# EAGLE library part STM32F4_DISCOVERY (library provant_custom)
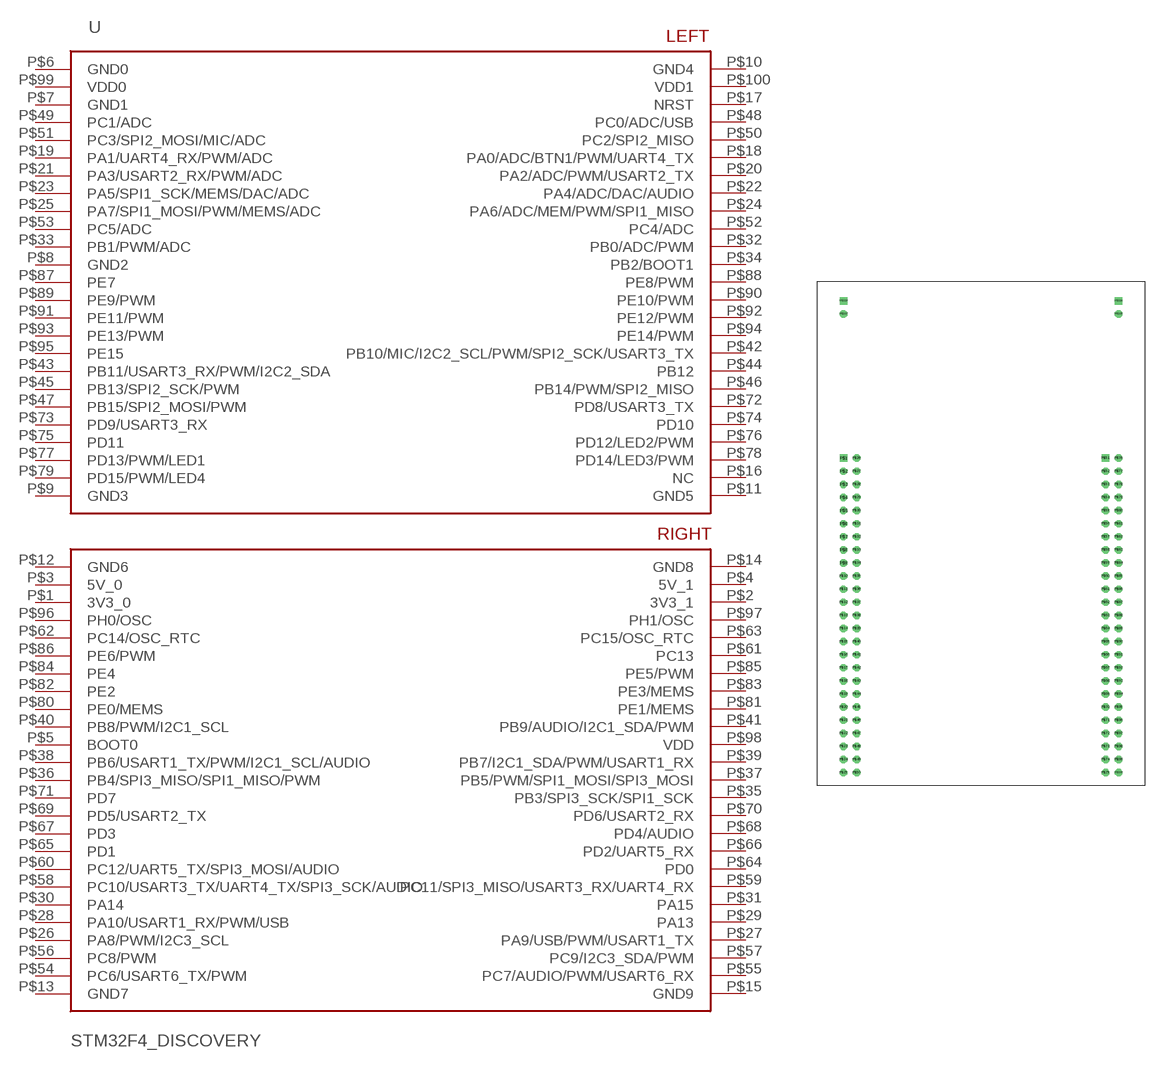
[diagram p1: symbol with the pads of STM32F4_DISCOVERY; footprint STM32F4_DISCOVERY]

Designator prefix -

## STM32F4_DISCOVERY  [STM32F4_DISCOVERY]
P$1  3V3_0
P$2  3V3_1
P$3  5V_0
P$4  5V_1
P$5  BOOT0
P$6  GND0
P$7  GND1
P$8  GND2
P$9  GND3
P$10  GND4
P$11  GND5
P$12  GND6
P$13  GND7
P$14  GND8
P$15  GND9
P$16  NC
P$17  NRST
P$18  PA0/ADC/BTN1/PWM/UART4_TX
P$19  PA1/UART4_RX/PWM/ADC
P$20  PA2/ADC/PWM/USART2_TX
P$21  PA3/USART2_RX/PWM/ADC
P$22  PA4/ADC/DAC/AUDIO
P$23  PA5/SPI1_SCK/MEMS/DAC/ADC
P$24  PA6/ADC/MEM/PWM/SPI1_MISO
P$25  PA7/SPI1_MOSI/PWM/MEMS/ADC
P$26  PA8/PWM/I2C3_SCL
P$27  PA9/USB/PWM/USART1_TX
P$28  PA10/USART1_RX/PWM/USB
P$29  PA13
P$30  PA14
P$31  PA15
P$32  PB0/ADC/PWM
P$33  PB1/PWM/ADC
P$34  PB2/BOOT1
P$35  PB3/SPI3_SCK/SPI1_SCK
P$36  PB4/SPI3_MISO/SPI1_MISO/PWM
P$37  PB5/PWM/SPI1_MOSI/SPI3_MOSI
P$38  PB6/USART1_TX/PWM/I2C1_SCL/AUDIO
P$39  PB7/I2C1_SDA/PWM/USART1_RX
P$40  PB8/PWM/I2C1_SCL
P$41  PB9/AUDIO/I2C1_SDA/PWM
P$42  PB10/MIC/I2C2_SCL/PWM/SPI2_SCK/USART3_TX
P$43  PB11/USART3_RX/PWM/I2C2_SDA
P$44  PB12
P$45  PB13/SPI2_SCK/PWM
P$46  PB14/PWM/SPI2_MISO
P$47  PB15/SPI2_MOSI/PWM
P$48  PC0/ADC/USB
P$49  PC1/ADC
P$50  PC2/SPI2_MISO
P$51  PC3/SPI2_MOSI/MIC/ADC
P$52  PC4/ADC
P$53  PC5/ADC
P$54  PC6/USART6_TX/PWM
P$55  PC7/AUDIO/PWM/USART6_RX
P$56  PC8/PWM
P$57  PC9/I2C3_SDA/PWM
P$58  PC10/USART3_TX/UART4_TX/SPI3_SCK/AUDIO
P$59  PC11/SPI3_MISO/USART3_RX/UART4_RX
P$60  PC12/UART5_TX/SPI3_MOSI/AUDIO
P$61  PC13
P$62  PC14/OSC_RTC
P$63  PC15/OSC_RTC
P$64  PD0
P$65  PD1
P$66  PD2/UART5_RX
P$67  PD3
P$68  PD4/AUDIO
P$69  PD5/USART2_TX
P$70  PD6/USART2_RX
P$71  PD7
P$72  PD8/USART3_TX
P$73  PD9/USART3_RX
P$74  PD10
P$75  PD11
P$76  PD12/LED2/PWM
P$77  PD13/PWM/LED1
P$78  PD14/LED3/PWM
P$79  PD15/PWM/LED4
P$80  PE0/MEMS
P$81  PE1/MEMS
P$82  PE2
P$83  PE3/MEMS
P$84  PE4
P$85  PE5/PWM
P$86  PE6/PWM
P$87  PE7
P$88  PE8/PWM
P$89  PE9/PWM
P$90  PE10/PWM
P$91  PE11/PWM
P$92  PE12/PWM
P$93  PE13/PWM
P$94  PE14/PWM
P$95  PE15
P$96  PH0/OSC
P$97  PH1/OSC
P$98  VDD
P$99  VDD0
P$100  VDD1

## Footprint STM32F4_DISCOVERY (pad centres in mm)
drill 0.5 pad 1.422 square: P$1 -26.67,27.94; P$51 24.13,27.94; P$103 -26.67,58.42; P$106 26.67,58.42
drill 0.5 pad 1.422 octagon: P$2 -26.67,25.4; P$3 -26.67,22.86; P$4 -26.67,20.32; P$5 -26.67,17.78; P$6 -26.67,15.24; P$7 -26.67,12.7; P$8 -26.67,10.16; P$9 -26.67,7.62; P$10 -26.67,5.08; P$11 -26.67,2.54; P$12 -26.67,0; P$13 -26.67,-2.54; P$14 -26.67,-5.08; P$15 -26.67,-7.62; P$16 -26.67,-10.16; P$17 -26.67,-12.7; P$18 -26.67,-15.24; P$19 -26.67,-17.78; P$20 -26.67,-20.32; P$21 -26.67,-22.86; P$22 -26.67,-25.4; P$23 -26.67,-27.94; P$24 -26.67,-30.48; P$25 -26.67,-33.02; P$26 -24.13,27.94; P$27 -24.13,25.4; P$28 -24.13,22.86; P$29 -24.13,20.32; P$30 -24.13,17.78; P$31 -24.13,15.24; P$32 -24.13,12.7; P$33 -24.13,10.16; P$34 -24.13,7.62; P$35 -24.13,5.08; P$36 -24.13,2.54; P$37 -24.13,0; P$38 -24.13,-2.54; P$39 -24.13,-5.08; P$40 -24.13,-7.62; P$41 -24.13,-10.16; P$42 -24.13,-12.7; P$43 -24.13,-15.24; P$44 -24.13,-17.78; P$45 -24.13,-20.32; P$46 -24.13,-22.86; P$47 -24.13,-25.4; P$48 -24.13,-27.94; P$49 -24.13,-30.48; P$50 -24.13,-33.02; P$52 24.13,25.4; P$53 24.13,22.86; P$54 24.13,20.32; P$55 24.13,17.78; P$56 24.13,15.24; P$57 24.13,12.7; P$58 24.13,10.16; P$59 24.13,7.62; P$60 24.13,5.08; P$61 24.13,2.54; P$62 24.13,0; P$63 24.13,-2.54; P$64 24.13,-5.08; P$65 24.13,-7.62; P$66 24.13,-10.16; P$67 24.13,-12.7; P$68 24.13,-15.24; P$69 24.13,-17.78; P$70 24.13,-20.32; P$71 24.13,-22.86; P$72 24.13,-25.4; P$73 24.13,-27.94; P$74 24.13,-30.48; P$75 24.13,-33.02; P$76 26.67,27.94; P$77 26.67,25.4; P$78 26.67,22.86; P$79 26.67,20.32; P$80 26.67,17.78; P$81 26.67,15.24; P$82 26.67,12.7; P$83 26.67,10.16; P$84 26.67,7.62; P$85 26.67,5.08; P$86 26.67,2.54; P$87 26.67,0; P$88 26.67,-2.54; P$89 26.67,-5.08; P$90 26.67,-7.62; P$91 26.67,-10.16; P$92 26.67,-12.7; P$93 26.67,-15.24; P$94 26.67,-17.78; P$95 26.67,-20.32; P$96 26.67,-22.86; P$97 26.67,-25.4; P$98 26.67,-27.94; P$99 26.67,-30.48; P$100 26.67,-33.02; P$102 -26.67,55.88; P$105 26.67,55.88